# Altium schematic symbol library M20-9990246.SchLib: 1 symbol
Pins are listed as number, name and electrical type; pins without a type are passive.

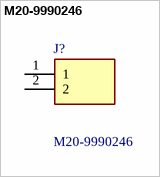
[diagram p0: symbol M20-9990246]

## M20-9990246
designator J?
M20: 2 Pos Plug SIL Straight 3mm THT Connector 6.1mm pin Tin; Manufacturer_Name: Harwin; Geometry.Height: 8.64mm; Mouser Part Number: 855-M20-9990246; Mouser Price/Stock: https://www.mouser.co.uk/ProductDetail/Harwin/M20-9990246?qs=Jph8NoUxIfWjw4WmyRvzag%3D%3D; Manufacturer_Part_Number: M20-9990246; Datasheet Link: https://content.harwin.com/m/0df15f6e0f9f48e2/original/DRG-00479-Technical-Drawing-Datasheet-M20-999-pdf.pdf
footprint HDRV2W66P0X254_1X2_508X254X864P
pins: 1, 2